# Altium integrated library Analog Devices Switches and Multiplexers Analog Switches.IntLib: 575 symbols (part 15 of 23)
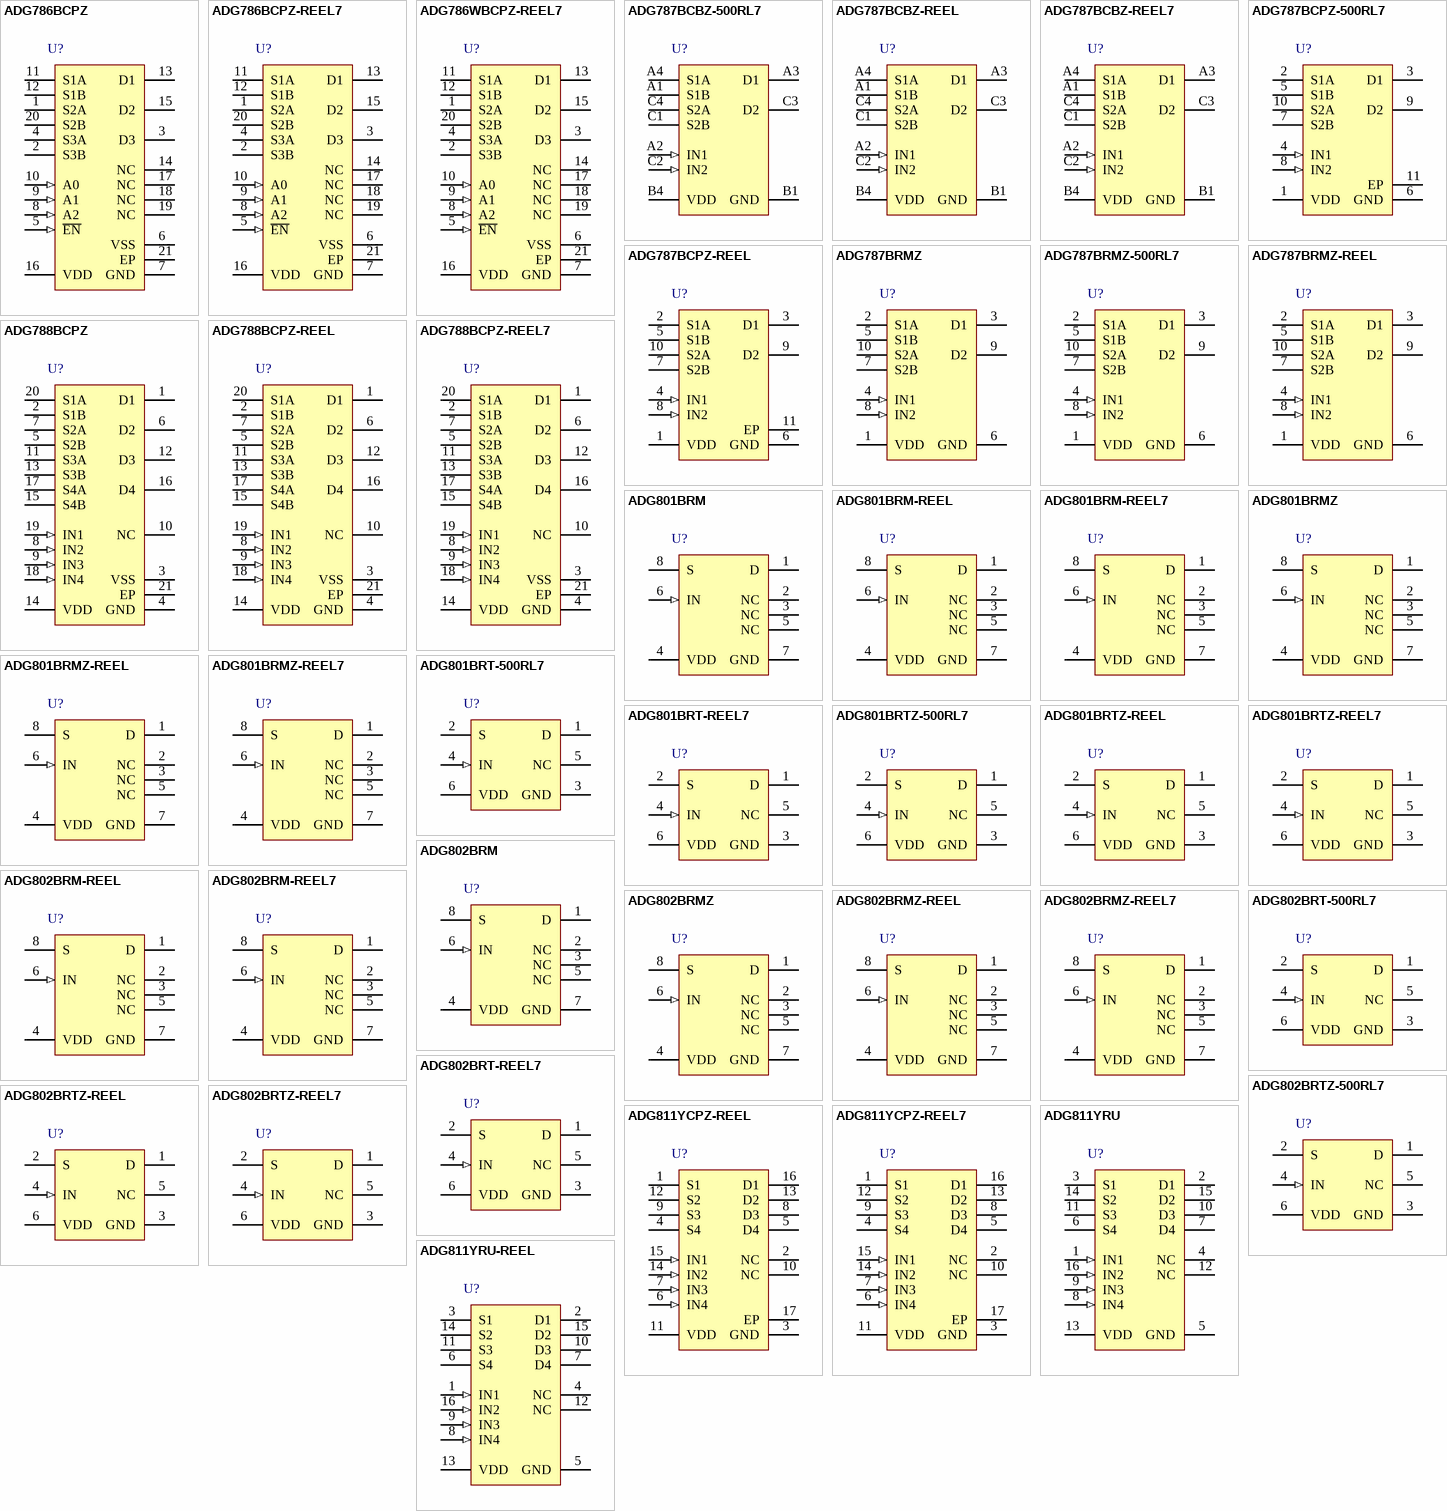
[diagram p29: symbols ADG786BCPZ to ADG811YRU-REEL]

## ADG802BRT-500RL7
designator U?
<0.4 Ohm CMOS 1.8 to 5.5 V SPST Switch, -40 to 125 degC, 6-pin SOT23 (RJ-6), Reel; Manufacturer: Analog Devices; PartNumber: ADG802BRT-500RL7; # Sw Functions: 1; Id, Is (ON): 10pA, 10pA; Max Pos Supply: 5.5V; Min Pos Supply: 1.8V; Power Dissipation: 5uW; DatasheetVersion: Rev. B; PackageVersion: 121608-A, 12/2008; PackageReference: RJ-6; PackageDescription: 6-Pin Small Outline Transistor Package, Body 2.9 x 1.6 mm, Pitch 0.95 mm; Supplier 1: Digi-Key; Supplier Part Number 1: ADG802BRT-500RL7-ND; Supplier 2: Newark; Supplier Part Number 2: 59K1631; Supplier 3: Mouser; Supplier Part Number 3: 584-ADG802BRT-500R7; Configuration: SPST; Is OFF: 10pA, 10pA; Packing: Reel; Mounting Technology: Surface Mount; Code_JEDEC: MO-178-AB; ComponentLink1Description: Manufacturer URL; ComponentLink1URL: http://www.analog.com/en/index.html; ComponentLink2Description: Datasheet; ComponentLink2URL: http://www.analog.com/static/imported-files/data_sheets/ADG801_802.pdf; ComponentLink3Description: Package Specification; ComponentLink3URL: http://www.analog.com/static/imported-files/packages/PKG_PDF/SOT-23(RJ)/RJ_6.pdf
footprint ADI-RJ-6_N (SOT23, 6-Leads, Body 2.9x1.6mm, Pitch 0.95mm, IPC Medium Density)
footprint ADI-RJ-6_L (SOT23, 6-Leads, Body 2.9x1.6mm, Pitch 0.95mm, IPC High Density)
footprint ADI-RJ-6_M (SOT23, 6-Leads, Body 2.9x1.6mm, Pitch 0.95mm, IPC Low Density)
pins: 1 D "Drain Terminal. Can be an input or an output.", 2 S "Source Terminal. Can be an input or an output.", 3 GND (power) "Ground (0 V) Reference.", 4 IN (in) "Logic Control Input.", 5 NC "No Connect. Do not connect to this pin.", 6 VDD (power) "Most Positive Power Supply Potential."

## ADG802BRT-REEL7
designator U?
<0.4 Ohm CMOS 1.8 to 5.5 V SPST Switch, -40 to 125 degC, 6-pin SOT23 (RJ-6), Reel; Manufacturer: Analog Devices; PartNumber: ADG802BRT-REEL7; # Sw Functions: 1; Id, Is (ON): 10pA, 10pA; Max Pos Supply: 5.5V; Min Pos Supply: 1.8V; Power Dissipation: 5uW; DatasheetVersion: Rev. B; PackageVersion: 121608-A, 12/2008; PackageReference: RJ-6; PackageDescription: 6-Pin Small Outline Transistor Package, Body 2.9 x 1.6 mm, Pitch 0.95 mm; Supplier 1: Digi-Key; Supplier Part Number 1: ADG802BRT-REEL7-ND; Configuration: SPST; Is OFF: 10pA, 10pA; Packing: Reel; Mounting Technology: Surface Mount; Code_JEDEC: MO-178-AB; ComponentLink1Description: Manufacturer URL; ComponentLink1URL: http://www.analog.com/en/index.html; ComponentLink2Description: Datasheet; ComponentLink2URL: http://www.analog.com/static/imported-files/data_sheets/ADG801_802.pdf; ComponentLink3Description: Package Specification; ComponentLink3URL: http://www.analog.com/static/imported-files/packages/PKG_PDF/SOT-23(RJ)/RJ_6.pdf
footprint ADI-RJ-6_N (SOT23, 6-Leads, Body 2.9x1.6mm, Pitch 0.95mm, IPC Medium Density)
footprint ADI-RJ-6_L (SOT23, 6-Leads, Body 2.9x1.6mm, Pitch 0.95mm, IPC High Density)
footprint ADI-RJ-6_M (SOT23, 6-Leads, Body 2.9x1.6mm, Pitch 0.95mm, IPC Low Density)
pins: 1 D "Drain Terminal. Can be an input or an output.", 2 S "Source Terminal. Can be an input or an output.", 3 GND (power) "Ground (0 V) Reference.", 4 IN (in) "Logic Control Input.", 5 NC "No Connect. Do not connect to this pin.", 6 VDD (power) "Most Positive Power Supply Potential."

## ADG802BRTZ-500RL7
designator U?
<0.4 Ohm CMOS 1.8 to 5.5 V SPST Switch, -40 to 125 degC, 6-pin SOT23 (RJ-6), Reel; Manufacturer: Analog Devices; PartNumber: ADG802BRTZ-500RL7; # Sw Functions: 1; Id, Is (ON): 10pA, 10pA; Max Pos Supply: 5.5V; Min Pos Supply: 1.8V; Power Dissipation: 5uW; DatasheetVersion: Rev. B; PackageVersion: 121608-A, 12/2008; PackageReference: RJ-6; PackageDescription: 6-Pin Small Outline Transistor Package, Body 2.9 x 1.6 mm, Pitch 0.95 mm; Supplier 1: Digi-Key; Supplier Part Number 1: ADG802BRTZ-500RL7TR-ND; Supplier 2: Digi-Key; Supplier Part Number 2: ADG802BRTZ-500RL7CT-ND; Supplier 3: Digi-Key; Supplier Part Number 3: ADG802BRTZ-500RL7DKR-ND; Supplier 4: Newark; Supplier Part Number 4: 59K1634; Supplier 5: Mouser; Supplier Part Number 5: 584-ADG802BRTZ-500R7; Configuration: SPST; Is OFF: 10pA, 10pA; Packing: Reel; Mounting Technology: Surface Mount; Code_JEDEC: MO-178-AB; ComponentLink1Description: Manufacturer URL; ComponentLink1URL: http://www.analog.com/en/index.html; ComponentLink2Description: Datasheet; ComponentLink2URL: http://www.analog.com/static/imported-files/data_sheets/ADG801_802.pdf; ComponentLink3Description: Package Specification; ComponentLink3URL: http://www.analog.com/static/imported-files/packages/PKG_PDF/SOT-23(RJ)/RJ_6.pdf
footprint ADI-RJ-6_N (SOT23, 6-Leads, Body 2.9x1.6mm, Pitch 0.95mm, IPC Medium Density)
footprint ADI-RJ-6_L (SOT23, 6-Leads, Body 2.9x1.6mm, Pitch 0.95mm, IPC High Density)
footprint ADI-RJ-6_M (SOT23, 6-Leads, Body 2.9x1.6mm, Pitch 0.95mm, IPC Low Density)
pins: 1 D "Drain Terminal. Can be an input or an output.", 2 S "Source Terminal. Can be an input or an output.", 3 GND (power) "Ground (0 V) Reference.", 4 IN (in) "Logic Control Input.", 5 NC "No Connect. Do not connect to this pin.", 6 VDD (power) "Most Positive Power Supply Potential."

## ADG802BRTZ-REEL
designator U?
<0.4 Ohm CMOS 1.8 to 5.5 V SPST Switch, -40 to 125 degC, 6-pin SOT23 (RJ-6), Reel; Manufacturer: Analog Devices; PartNumber: ADG802BRTZ-REEL; # Sw Functions: 1; Id, Is (ON): 10pA, 10pA; Max Pos Supply: 5.5V; Min Pos Supply: 1.8V; Power Dissipation: 5uW; DatasheetVersion: Rev. B; PackageVersion: 121608-A, 12/2008; PackageReference: RJ-6; PackageDescription: 6-Pin Small Outline Transistor Package, Body 2.9 x 1.6 mm, Pitch 0.95 mm; Supplier 1: Digi-Key; Supplier Part Number 1: ADG802BRTZ-REEL-ND; Supplier 2: Newark; Supplier Part Number 2: 59K1632; Supplier 3: Mouser; Supplier Part Number 3: 584-ADG802BRTZ-R; Configuration: SPST; Is OFF: 10pA, 10pA; Packing: Reel; Mounting Technology: Surface Mount; Code_JEDEC: MO-178-AB; ComponentLink1Description: Manufacturer URL; ComponentLink1URL: http://www.analog.com/en/index.html; ComponentLink2Description: Datasheet; ComponentLink2URL: http://www.analog.com/static/imported-files/data_sheets/ADG801_802.pdf; ComponentLink3Description: Package Specification; ComponentLink3URL: http://www.analog.com/static/imported-files/packages/PKG_PDF/SOT-23(RJ)/RJ_6.pdf
footprint ADI-RJ-6_N (SOT23, 6-Leads, Body 2.9x1.6mm, Pitch 0.95mm, IPC Medium Density)
footprint ADI-RJ-6_L (SOT23, 6-Leads, Body 2.9x1.6mm, Pitch 0.95mm, IPC High Density)
footprint ADI-RJ-6_M (SOT23, 6-Leads, Body 2.9x1.6mm, Pitch 0.95mm, IPC Low Density)
pins: 1 D "Drain Terminal. Can be an input or an output.", 2 S "Source Terminal. Can be an input or an output.", 3 GND (power) "Ground (0 V) Reference.", 4 IN (in) "Logic Control Input.", 5 NC "No Connect. Do not connect to this pin.", 6 VDD (power) "Most Positive Power Supply Potential."

## ADG802BRTZ-REEL7
designator U?
<0.4 Ohm CMOS 1.8 to 5.5 V SPST Switch, -40 to 125 degC, 6-pin SOT23 (RJ-6), Reel; Manufacturer: Analog Devices; PartNumber: ADG802BRTZ-REEL7; # Sw Functions: 1; Id, Is (ON): 10pA, 10pA; Max Pos Supply: 5.5V; Min Pos Supply: 1.8V; Power Dissipation: 5uW; DatasheetVersion: Rev. B; PackageVersion: 121608-A, 12/2008; PackageReference: RJ-6; PackageDescription: 6-Pin Small Outline Transistor Package, Body 2.9 x 1.6 mm, Pitch 0.95 mm; Supplier 1: Digi-Key; Supplier Part Number 1: ADG802BRTZ-REEL7TR-ND; Supplier 2: Digi-Key; Supplier Part Number 2: ADG802BRTZ-REEL7CT-ND; Supplier 3: Digi-Key; Supplier Part Number 3: ADG802BRTZ-REEL7DKR-ND; Supplier 4: Mouser; Supplier Part Number 4: 584-ADG802BRTZ-R7; Configuration: SPST; Is OFF: 10pA, 10pA; Packing: Reel; Mounting Technology: Surface Mount; Code_JEDEC: MO-178-AB; ComponentLink1Description: Manufacturer URL; ComponentLink1URL: http://www.analog.com/en/index.html; ComponentLink2Description: Datasheet; ComponentLink2URL: http://www.analog.com/static/imported-files/data_sheets/ADG801_802.pdf; ComponentLink3Description: Package Specification; ComponentLink3URL: http://www.analog.com/static/imported-files/packages/PKG_PDF/SOT-23(RJ)/RJ_6.pdf
footprint ADI-RJ-6_N (SOT23, 6-Leads, Body 2.9x1.6mm, Pitch 0.95mm, IPC Medium Density)
footprint ADI-RJ-6_L (SOT23, 6-Leads, Body 2.9x1.6mm, Pitch 0.95mm, IPC High Density)
footprint ADI-RJ-6_M (SOT23, 6-Leads, Body 2.9x1.6mm, Pitch 0.95mm, IPC Low Density)
pins: 1 D "Drain Terminal. Can be an input or an output.", 2 S "Source Terminal. Can be an input or an output.", 3 GND (power) "Ground (0 V) Reference.", 4 IN (in) "Logic Control Input.", 5 NC "No Connect. Do not connect to this pin.", 6 VDD (power) "Most Positive Power Supply Potential."

## ADG811YCPZ-REEL
designator U?
<0.5 Ohm CMOS, 1.65 to 3.6 V, Quad SPST Switch, -40 to 125 degC, 16-pin QFN (CP-16-3), Reel; Manufacturer: Analog Devices; PartNumber: ADG811YCPZ-REEL; # Sw Functions: 4; Id, Is (ON): 200pA, 200pA, 200pA; Max Pos Supply: 3.6V; Min Pos Supply: 1.65V; Power Dissipation: 14.4uW; DatasheetVersion: Rev. B; PackageReference: CP-16-3; PackageDescription: 16-Pin Lead Frame Chip Scale Package, Body 3 x 3 mm, Pitch 0.5 mm; Supplier 1: Digi-Key; Supplier Part Number 1: ADG811YCPZ-REEL-ND; Supplier 2: Mouser; Supplier Part Number 2: 584-ADG811YCPZ-R; Configuration: SPST; Is OFF: 200pA, 200pA, 200pA; Packing: Reel; Mounting Technology: Surface Mount; Code_JEDEC: MO-220-VEED-2; ComponentLink1Description: Manufacturer URL; ComponentLink1URL: http://www.analog.com/en/index.html; ComponentLink2Description: Datasheet; ComponentLink2URL: http://www.analog.com/static/imported-files/data_sheets/ADG811_812_813.pdf; ComponentLink3Description: Package Specification; ComponentLink3URL: http://www.analog.com/static/imported-files/packages/PKG_PDF/LFCSP(CP)/CP_16_3.pdf
footprint ADI-CP-16-3_N (QFN, 16-Leads, Body 3x3mm, Pitch 0.5mm, Thermal Pad 1.5x1.5mm, IPC Medium Density)
footprint ADI-CP-16-3_L (QFN, 16-Leads, Body 3x3mm, Pitch 0.5mm, Thermal Pad 1.5x1.5mm, IPC High Density)
footprint ADI-CP-16-3_M (QFN, 16-Leads, Body 3x3mm, Pitch 0.5mm, Thermal Pad 1.5x1.5mm, IPC Low Density)
pins: 1 S1 "Source Terminal. This pin may be an input or output.", 2 NC "No Connect.", 3 GND (power) "Ground (0 V) Reference.", 4 S4 "Source Terminal. This pin may be an input or output.", 5 D4 "Drain Terminal. This pin may be an input or output.", 6 IN4 (in) "Logic Control Input.", 7 IN3 (in) "Logic Control Input.", 8 D3 "Drain Terminal. This pin may be an input or output.", 9 S3 "Source Terminal. This pin may be an input or output.", 10 NC "No Connect.", 11 VDD (power) "Most Positive Power Supply Potential.", 12 S2 "Source Terminal. This pin may be an input or output.", 13 D2 "Drain Terminal. This pin may be an input or output.", 14 IN2 (in) "Logic Control Input.", 15 IN1 (in) "Logic Control Input.", 16 D1 "Drain Terminal. This pin may be an input or output.", 17 EP (power) "Connect exposed pad to GND."

## ADG811YCPZ-REEL7
designator U?
<0.5 Ohm CMOS, 1.65 to 3.6 V, Quad SPST Switches, -40 to 125 degC, 16-pin QFN (CP-16-3), Reel; Manufacturer: Analog Devices; PartNumber: ADG811YCPZ-REEL7; # Sw Functions: 4; Id, Is (ON): 200pA, 200pA, 200pA; Max Pos Supply: 3.6V; Min Pos Supply: 1.65V; Power Dissipation: 14.4 uW; DatasheetVersion: Rev. B; PackageReference: CP-16-3; PackageDescription: 16-Pin Lead Frame Chip Scale Package, Body 3 x 3 mm, Pitch 0.5 mm; Supplier 1: Digi-Key; Supplier Part Number 1: ADG811YCPZ-REEL7TR-ND; Supplier 2: Digi-Key; Supplier Part Number 2: ADG811YCPZ-REEL7CT-ND; Supplier 3: Digi-Key; Supplier Part Number 3: ADG811YCPZ-REEL7DKR-ND; Supplier 4: Newark; Supplier Part Number 4: 51P3720; Supplier 5: Mouser; Supplier Part Number 5: 584-ADG811YCPZ-R7; Configuration: SPST; Is OFF: 200pA, 200pA, 200pA; Packing: Reel; Mounting Technology: Surface Mount; Code_JEDEC: MO-220-VEED-2; ComponentLink1Description: Manufacturer URL; ComponentLink1URL: http://www.analog.com/en/index.html; ComponentLink2Description: Datasheet; ComponentLink2URL: http://www.analog.com/static/imported-files/data_sheets/ADG811_812_813.pdf; ComponentLink3Description: Package Specification; ComponentLink3URL: http://www.analog.com/static/imported-files/packages/PKG_PDF/LFCSP(CP)/CP_16_3.pdf
footprint ADI-CP-16-3_N (QFN, 16-Leads, Body 3x3mm, Pitch 0.5mm, Thermal Pad 1.5x1.5mm, IPC Medium Density)
footprint ADI-CP-16-3_L (QFN, 16-Leads, Body 3x3mm, Pitch 0.5mm, Thermal Pad 1.5x1.5mm, IPC High Density)
footprint ADI-CP-16-3_M (QFN, 16-Leads, Body 3x3mm, Pitch 0.5mm, Thermal Pad 1.5x1.5mm, IPC Low Density)
pins: 1 S1 "Source Terminal. This pin may be an input or output.", 2 NC "No Connect.", 3 GND (power) "Ground (0 V) Reference.", 4 S4 "Source Terminal. This pin may be an input or output.", 5 D4 "Drain Terminal. This pin may be an input or output.", 6 IN4 (in) "Logic Control Input.", 7 IN3 (in) "Logic Control Input.", 8 D3 "Drain Terminal. This pin may be an input or output.", 9 S3 "Source Terminal. This pin may be an input or output.", 10 NC "No Connect.", 11 VDD (power) "Most Positive Power Supply Potential.", 12 S2 "Source Terminal. This pin may be an input or output.", 13 D2 "Drain Terminal. This pin may be an input or output.", 14 IN2 (in) "Logic Control Input.", 15 IN1 (in) "Logic Control Input.", 16 D1 "Drain Terminal. This pin may be an input or output.", 17 EP (power) "Connect exposed pad to GND."

## ADG811YRU
designator U?
<0.5 Ohm CMOS, 1.65 to 3.6 V, Quad SPST Switch, -40 to 125 degC, 16-pin SOP (RU-16), Tube; Manufacturer: Analog Devices; PartNumber: ADG811YRU; # Sw Functions: 4; Id, Is (ON): 200pA, 200pA, 200pA; Max Pos Supply: 3.6V; Min Pos Supply: 1.65V; Power Dissipation: 14.4uW; DatasheetVersion: Rev. B; PackageVersion: Nov-02; PackageReference: RU-16; PackageDescription: 16-Pin Thin Shrink Small Outline Package, Body 5 x 4.4 mm, Pitch 0.65 mm; Supplier 1: Digi-Key; Supplier Part Number 1: ADG811YRU-ND; Supplier 2: Mouser; Supplier Part Number 2: 584-ADG811YRU; Configuration: SPST; Is OFF: 200pA, 200pA, 200pA; Packing: Tube; Mounting Technology: Surface Mount; Code_JEDEC: MO-153AB; ComponentLink1Description: Manufacturer URL; ComponentLink1URL: http://www.analog.com/en/index.html; ComponentLink2Description: Datasheet; ComponentLink2URL: http://www.analog.com/static/imported-files/data_sheets/ADG811_812_813.pdf; ComponentLink3Description: Package Specification; ComponentLink3URL: http:/www.analog.com/static/imported-files/packages/36244347913743854010197452789RU16.pdf
footprint ADI-RU-16_N (SOP, 16-Leads, Body 5x4.4mm, Pitch 0.65mm, IPC Medium Density)
footprint ADI-RU-16_L (SOP, 16-Leads, Body 5x4.4mm, Pitch 0.65mm, IPC High Density)
footprint ADI-RU-16_M (SOP, 16-Leads, Body 5x4.4mm, Pitch 0.65mm, IPC Low Density)
pins: 1 IN1 (in) "Logic control input.", 2 D1 "Drain Terminal. This pin may be an input or output.", 3 S1 "Source Terminal. This pin may be an input or output.", 4 NC "No Connect.", 5 GND (power) "Ground (0 V) reference.", 6 S4 "Source Terminal. This pin may be an input or output.", 7 D4 "Drain Terminal. This pin may be an input or output.", 8 IN4 (in) "Logic Control Input.", 9 IN3 (in) "Logic Control Input.", 10 D3 "Drain Terminal. This pin may be an input or output.", 11 S3 "Source Terminal. This pin may be an input or output.", 12 NC "No Connect.", 13 VDD (power) "Most Positive Power Supply Potential.", 14 S2 "Source Terminal. This pin may be an input or output.", 15 D2 "Drain Terminal. This pin may be an input or output.", 16 IN2 (in) "Logic Control Input."

## ADG811YRU-REEL
designator U?
<0.5 Ohm CMOS, 1.65 to 3.6 V, Quad SPST Switch, -40 to 125 degC, 16-pin SOP (RU-16), Reel; Manufacturer: Analog Devices; PartNumber: ADG811YRU-REEL; # Sw Functions: 4; Id, Is (ON): 200pA, 200pA, 200pA; Max Pos Supply: 3.6V; Min Pos Supply: 1.65V; Power Dissipation: 14.4uW; DatasheetVersion: Rev. B; PackageVersion: Nov-02; PackageReference: RU-16; PackageDescription: 16-Pin Thin Shrink Small Outline Package, Body 5 x 4.4 mm, Pitch 0.65 mm; Supplier 1: Digi-Key; Supplier Part Number 1: ADG811YRU-REEL-ND; Supplier 2: Mouser; Supplier Part Number 2: 584-ADG811YRU-R; Configuration: SPST; Is OFF: 200pA, 200pA, 200pA; Packing: Reel; Mounting Technology: Surface Mount; Code_JEDEC: MO-153AB; ComponentLink1Description: Manufacturer URL; ComponentLink1URL: http://www.analog.com/en/index.html; ComponentLink2Description: Datasheet; ComponentLink2URL: http://www.analog.com/static/imported-files/data_sheets/ADG811_812_813.pdf; ComponentLink3Description: Package Specification; ComponentLink3URL: http:/www.analog.com/static/imported-files/packages/36244347913743854010197452789RU16.pdf
footprint ADI-RU-16_N (SOP, 16-Leads, Body 5x4.4mm, Pitch 0.65mm, IPC Medium Density)
footprint ADI-RU-16_L (SOP, 16-Leads, Body 5x4.4mm, Pitch 0.65mm, IPC High Density)
footprint ADI-RU-16_M (SOP, 16-Leads, Body 5x4.4mm, Pitch 0.65mm, IPC Low Density)
pins: 1 IN1 (in) "Logic control input.", 2 D1 "Drain Terminal. This pin may be an input or output.", 3 S1 "Source Terminal. This pin may be an input or output.", 4 NC "No Connect.", 5 GND (power) "Ground (0 V) reference.", 6 S4 "Source Terminal. This pin may be an input or output.", 7 D4 "Drain Terminal. This pin may be an input or output.", 8 IN4 (in) "Logic Control Input.", 9 IN3 (in) "Logic Control Input.", 10 D3 "Drain Terminal. This pin may be an input or output.", 11 S3 "Source Terminal. This pin may be an input or output.", 12 NC "No Connect.", 13 VDD (power) "Most Positive Power Supply Potential.", 14 S2 "Source Terminal. This pin may be an input or output.", 15 D2 "Drain Terminal. This pin may be an input or output.", 16 IN2 (in) "Logic Control Input."

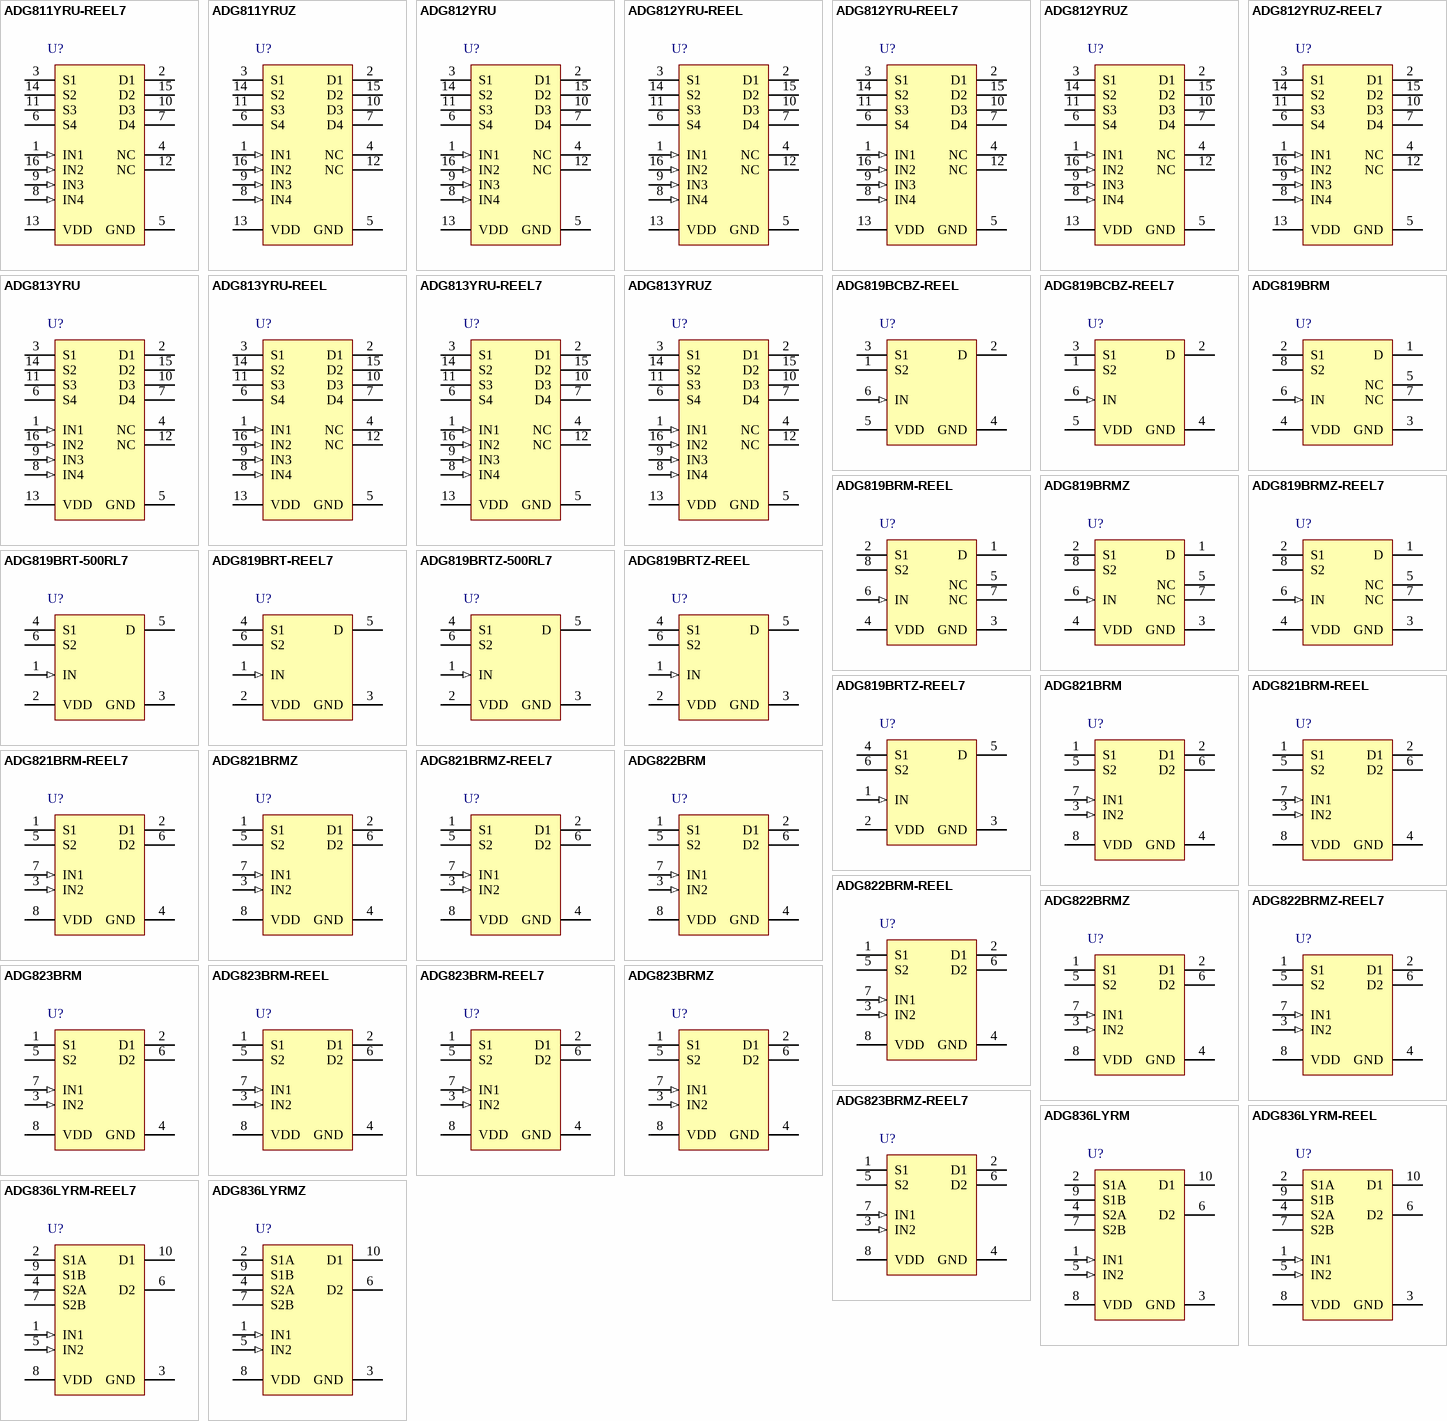
[diagram p10: symbols ADG811YRU-REEL7 to ADG836LYRMZ]

## ADG811YRU-REEL7
designator U?
<0.5 Ohm CMOS, 1.65 to 3.6 V, Quad SPST Switch, -40 to 125 degC, 16-pin SOP (RU-16), Reel; Manufacturer: Analog Devices; PartNumber: ADG811YRU-REEL7; # Sw Functions: 4; Id, Is (ON): 200pA, 200pA, 200pA; Max Pos Supply: 3.6V; Min Pos Supply: 1.65V; Power Dissipation: 14.4uW; DatasheetVersion: Rev. B; PackageVersion: Nov-02; PackageReference: RU-16; PackageDescription: 16-Pin Thin Shrink Small Outline Package, Body 5 x 4.4 mm, Pitch 0.65 mm; Supplier 1: Digi-Key; Supplier Part Number 1: ADG811YRU-REEL7-ND; Supplier 2: Mouser; Supplier Part Number 2: 584-ADG811YRU-R7; Configuration: SPST; Is OFF: 200pA, 200pA, 200pA; Packing: Reel; Mounting Technology: Surface Mount; Code_JEDEC: MO-153AB; ComponentLink1Description: Manufacturer URL; ComponentLink1URL: http://www.analog.com/en/index.html; ComponentLink2Description: Datasheet; ComponentLink2URL: http://www.analog.com/static/imported-files/data_sheets/ADG811_812_813.pdf; ComponentLink3Description: Package Specification; ComponentLink3URL: http:/www.analog.com/static/imported-files/packages/36244347913743854010197452789RU16.pdf
footprint ADI-RU-16_N (SOP, 16-Leads, Body 5x4.4mm, Pitch 0.65mm, IPC Medium Density)
footprint ADI-RU-16_L (SOP, 16-Leads, Body 5x4.4mm, Pitch 0.65mm, IPC High Density)
footprint ADI-RU-16_M (SOP, 16-Leads, Body 5x4.4mm, Pitch 0.65mm, IPC Low Density)
pins: 1 IN1 (in) "Logic control input.", 2 D1 "Drain Terminal. This pin may be an input or output.", 3 S1 "Source Terminal. This pin may be an input or output.", 4 NC "No Connect.", 5 GND (power) "Ground (0 V) reference.", 6 S4 "Source Terminal. This pin may be an input or output.", 7 D4 "Drain Terminal. This pin may be an input or output.", 8 IN4 (in) "Logic Control Input.", 9 IN3 (in) "Logic Control Input.", 10 D3 "Drain Terminal. This pin may be an input or output.", 11 S3 "Source Terminal. This pin may be an input or output.", 12 NC "No Connect.", 13 VDD (power) "Most Positive Power Supply Potential.", 14 S2 "Source Terminal. This pin may be an input or output.", 15 D2 "Drain Terminal. This pin may be an input or output.", 16 IN2 (in) "Logic Control Input."

## ADG811YRUZ
designator U?
<0.5 Ohm CMOS, 1.65 to 3.6 V, Quad SPST Switches, -40 to 125 degC, 16-pin SOP (RU-16), Tube; Manufacturer: Analog Devices; PartNumber: ADG811YRUZ; # Sw Functions: 4; Id, Is (ON): 200pA, 200pA, 200pA; Max Pos Supply: 3.6V; Min Pos Supply: 1.65V; Power Dissipation: 14.4 uW; DatasheetVersion: Rev. B; PackageVersion: Nov-02; PackageReference: RU-16; PackageDescription: 16-Pin Thin Shrink Small Outline Package, Body 5 x 4.4 mm, Pitch 0.65 mm; Supplier 1: Digi-Key; Supplier Part Number 1: ADG811YRUZ-ND; Supplier 2: Farnell; Supplier Part Number 2: 1838890; Supplier 3: Newark; Supplier Part Number 3: 59K1641; Supplier 4: Mouser; Supplier Part Number 4: 584-ADG811YRUZ; Configuration: SPST; Is OFF: 200pA, 200pA, 200pA; Packing: Tube; Mounting Technology: Surface Mount; Code_JEDEC: MO-153AB; ComponentLink1Description: Manufacturer URL; ComponentLink1URL: http://www.analog.com/en/index.html; ComponentLink2Description: Datasheet; ComponentLink2URL: http://www.analog.com/static/imported-files/data_sheets/ADG811_812_813.pdf; ComponentLink3Description: Package Specification; ComponentLink3URL: http:/www.analog.com/static/imported-files/packages/36244347913743854010197452789RU16.pdf
footprint ADI-RU-16_N (SOP, 16-Leads, Body 5x4.4mm, Pitch 0.65mm, IPC Medium Density)
footprint ADI-RU-16_L (SOP, 16-Leads, Body 5x4.4mm, Pitch 0.65mm, IPC High Density)
footprint ADI-RU-16_M (SOP, 16-Leads, Body 5x4.4mm, Pitch 0.65mm, IPC Low Density)
pins: 1 IN1 (in) "Logic control input.", 2 D1 "Drain Terminal. This pin may be an input or output.", 3 S1 "Source Terminal. This pin may be an input or output.", 4 NC "No Connect.", 5 GND (power) "Ground (0 V) reference.", 6 S4 "Source Terminal. This pin may be an input or output.", 7 D4 "Drain Terminal. This pin may be an input or output.", 8 IN4 (in) "Logic Control Input.", 9 IN3 (in) "Logic Control Input.", 10 D3 "Drain Terminal. This pin may be an input or output.", 11 S3 "Source Terminal. This pin may be an input or output.", 12 NC "No Connect.", 13 VDD (power) "Most Positive Power Supply Potential.", 14 S2 "Source Terminal. This pin may be an input or output.", 15 D2 "Drain Terminal. This pin may be an input or output.", 16 IN2 (in) "Logic Control Input."

## ADG812YRU
designator U?
<0.5 Ohm CMOS, 1.65 to 3.6 V, Quad SPST Switches, -40 to 125 degC, 16-pin SOP (RU-16), Tube; Manufacturer: Analog Devices; PartNumber: ADG812YRU; # Sw Functions: 4; Id, Is (ON): 200pA, 200pA, 200pA; Max Pos Supply: 3.6V; Min Pos Supply: 1.65V; Power Dissipation: 14.4uW; DatasheetVersion: Rev. B; PackageVersion: Nov-02; PackageReference: RU-16; PackageDescription: 16-Pin Thin Shrink Small Outline Package, Body 5 x 4.4 mm, Pitch 0.65 mm; Supplier 1: Digi-Key; Supplier Part Number 1: ADG812YRU-ND; Supplier 2: Mouser; Supplier Part Number 2: 584-ADG812YRU; Configuration: SPST; Is OFF: 200pA, 200pA, 200pA; Packing: Tube; Mounting Technology: Surface Mount; Code_JEDEC: MO-153AB; ComponentLink1Description: Manufacturer URL; ComponentLink1URL: http://www.analog.com/en/index.html; ComponentLink2Description: Datasheet; ComponentLink2URL: http://www.analog.com/static/imported-files/data_sheets/ADG811_812_813.pdf; ComponentLink3Description: Package Specification; ComponentLink3URL: http:/www.analog.com/static/imported-files/packages/36244347913743854010197452789RU16.pdf
footprint ADI-RU-16_N (SOP, 16-Leads, Body 5x4.4mm, Pitch 0.65mm, IPC Medium Density)
footprint ADI-RU-16_L (SOP, 16-Leads, Body 5x4.4mm, Pitch 0.65mm, IPC High Density)
footprint ADI-RU-16_M (SOP, 16-Leads, Body 5x4.4mm, Pitch 0.65mm, IPC Low Density)
pins: 1 IN1 (in) "Logic control input.", 2 D1 "Drain Terminal. This pin may be an input or output.", 3 S1 "Source Terminal. This pin may be an input or output.", 4 NC "No Connect.", 5 GND (power) "Ground (0 V) reference.", 6 S4 "Source Terminal. This pin may be an input or output.", 7 D4 "Drain Terminal. This pin may be an input or output.", 8 IN4 (in) "Logic Control Input.", 9 IN3 (in) "Logic Control Input.", 10 D3 "Drain Terminal. This pin may be an input or output.", 11 S3 "Source Terminal. This pin may be an input or output.", 12 NC "No Connect.", 13 VDD (power) "Most Positive Power Supply Potential.", 14 S2 "Source Terminal. This pin may be an input or output.", 15 D2 "Drain Terminal. This pin may be an input or output.", 16 IN2 (in) "Logic Control Input."

## ADG812YRU-REEL
designator U?
<0.5 Ohm CMOS, 1.65 to 3.6 V, Quad SPST Switche, -40 to 125 degC, 16-pin SOP (RU-16), Reel; Manufacturer: Analog Devices; PartNumber: ADG812YRU-REEL; # Sw Functions: 4; Id, Is (ON): 200pA, 200pA, 200pA; Max Pos Supply: 3.6V; Min Pos Supply: 1.65V; Power Dissipation: 14.4uW; DatasheetVersion: Rev. B; PackageVersion: Nov-02; PackageReference: RU-16; PackageDescription: 16-Pin Thin Shrink Small Outline Package, Body 5 x 4.4 mm, Pitch 0.65 mm; Supplier 1: Digi-Key; Supplier Part Number 1: ADG812YRU-REEL-ND; Supplier 2: Mouser; Supplier Part Number 2: 584-ADG812YRU-R; Configuration: SPST; Is OFF: 200pA, 200pA, 200pA; Packing: Reel; Mounting Technology: Surface Mount; Code_JEDEC: MO-153AB; ComponentLink1Description: Manufacturer URL; ComponentLink1URL: http://www.analog.com/en/index.html; ComponentLink2Description: Datasheet; ComponentLink2URL: http://www.analog.com/static/imported-files/data_sheets/ADG811_812_813.pdf; ComponentLink3Description: Package Specification; ComponentLink3URL: http:/www.analog.com/static/imported-files/packages/36244347913743854010197452789RU16.pdf
footprint ADI-RU-16_N (SOP, 16-Leads, Body 5x4.4mm, Pitch 0.65mm, IPC Medium Density)
footprint ADI-RU-16_L (SOP, 16-Leads, Body 5x4.4mm, Pitch 0.65mm, IPC High Density)
footprint ADI-RU-16_M (SOP, 16-Leads, Body 5x4.4mm, Pitch 0.65mm, IPC Low Density)
pins: 1 IN1 (in) "Logic control input.", 2 D1 "Drain Terminal. This pin may be an input or output.", 3 S1 "Source Terminal. This pin may be an input or output.", 4 NC "No Connect.", 5 GND (power) "Ground (0 V) reference.", 6 S4 "Source Terminal. This pin may be an input or output.", 7 D4 "Drain Terminal. This pin may be an input or output.", 8 IN4 (in) "Logic Control Input.", 9 IN3 (in) "Logic Control Input.", 10 D3 "Drain Terminal. This pin may be an input or output.", 11 S3 "Source Terminal. This pin may be an input or output.", 12 NC "No Connect.", 13 VDD (power) "Most Positive Power Supply Potential.", 14 S2 "Source Terminal. This pin may be an input or output.", 15 D2 "Drain Terminal. This pin may be an input or output.", 16 IN2 (in) "Logic Control Input."

## ADG812YRU-REEL7
designator U?
<0.5 Ohm CMOS, 1.65 to 3.6 V, Quad SPST Switches, -40 to 125 degC, 16-pin SOP (RU-16), Reel; Manufacturer: Analog Devices; PartNumber: ADG812YRU-REEL7; # Sw Functions: 4; Id, Is (ON): 200pA, 200pA, 200pA; Max Pos Supply: 3.6V; Min Pos Supply: 1.65V; Power Dissipation: 14.4uW; DatasheetVersion: Rev. B; PackageVersion: Nov-02; PackageReference: RU-16; PackageDescription: 16-Pin Thin Shrink Small Outline Package, Body 5 x 4.4 mm, Pitch 0.65 mm; Supplier 1: Digi-Key; Supplier Part Number 1: ADG812YRU-REEL7-ND; Supplier 2: Mouser; Supplier Part Number 2: 584-ADG812YRU-R7; Configuration: SPST; Is OFF: 200pA, 200pA, 200pA; Packing: Reel; Mounting Technology: Surface Mount; Code_JEDEC: MO-153AB; ComponentLink1Description: Manufacturer URL; ComponentLink1URL: http://www.analog.com/en/index.html; ComponentLink2Description: Datasheet; ComponentLink2URL: http://www.analog.com/static/imported-files/data_sheets/ADG811_812_813.pdf; ComponentLink3Description: Package Specification; ComponentLink3URL: http:/www.analog.com/static/imported-files/packages/36244347913743854010197452789RU16.pdf
footprint ADI-RU-16_N (SOP, 16-Leads, Body 5x4.4mm, Pitch 0.65mm, IPC Medium Density)
footprint ADI-RU-16_L (SOP, 16-Leads, Body 5x4.4mm, Pitch 0.65mm, IPC High Density)
footprint ADI-RU-16_M (SOP, 16-Leads, Body 5x4.4mm, Pitch 0.65mm, IPC Low Density)
pins: 1 IN1 (in) "Logic control input.", 2 D1 "Drain Terminal. This pin may be an input or output.", 3 S1 "Source Terminal. This pin may be an input or output.", 4 NC "No Connect.", 5 GND (power) "Ground (0 V) reference.", 6 S4 "Source Terminal. This pin may be an input or output.", 7 D4 "Drain Terminal. This pin may be an input or output.", 8 IN4 (in) "Logic Control Input.", 9 IN3 (in) "Logic Control Input.", 10 D3 "Drain Terminal. This pin may be an input or output.", 11 S3 "Source Terminal. This pin may be an input or output.", 12 NC "No Connect.", 13 VDD (power) "Most Positive Power Supply Potential.", 14 S2 "Source Terminal. This pin may be an input or output.", 15 D2 "Drain Terminal. This pin may be an input or output.", 16 IN2 (in) "Logic Control Input."

## ADG812YRUZ
designator U?
<0.5 Ohm CMOS, 1.65 to 3.6 V, Quad SPST Switches, -40 to 125 degC, 16-pin SOP (RU-16), Tube; Manufacturer: Analog Devices; PartNumber: ADG812YRUZ; # Sw Functions: 4; Id, Is (ON): 200pA, 200pA, 200pA; Max Pos Supply: 3.6V; Min Pos Supply: 1.65V; Power Dissipation: 14.4uW; DatasheetVersion: Rev. B; PackageVersion: Nov-02; PackageReference: RU-16; PackageDescription: 16-Pin Thin Shrink Small Outline Package, Body 5 x 4.4 mm, Pitch 0.65 mm; Supplier 1: Digi-Key; Supplier Part Number 1: ADG812YRUZ-ND; Supplier 2: Farnell; Supplier Part Number 2: 2376786; Supplier 3: Farnell; Supplier Part Number 3: 2192242; Supplier 4: Newark; Supplier Part Number 4: 59K1642; Supplier 5: Mouser; Supplier Part Number 5: 584-ADG812YRUZ; Configuration: SPST; Is OFF: 200pA, 200pA, 200pA; Packing: Tube; Mounting Technology: Surface Mount; Code_JEDEC: MO-153AB; ComponentLink1Description: Manufacturer URL; ComponentLink1URL: http://www.analog.com/en/index.html; ComponentLink2Description: Datasheet; ComponentLink2URL: http://www.analog.com/static/imported-files/data_sheets/ADG811_812_813.pdf; ComponentLink3Description: Package Specification; ComponentLink3URL: http:/www.analog.com/static/imported-files/packages/36244347913743854010197452789RU16.pdf
footprint ADI-RU-16_N (SOP, 16-Leads, Body 5x4.4mm, Pitch 0.65mm, IPC Medium Density)
footprint ADI-RU-16_L (SOP, 16-Leads, Body 5x4.4mm, Pitch 0.65mm, IPC High Density)
footprint ADI-RU-16_M (SOP, 16-Leads, Body 5x4.4mm, Pitch 0.65mm, IPC Low Density)
pins: 1 IN1 (in) "Logic control input.", 2 D1 "Drain Terminal. This pin may be an input or output.", 3 S1 "Source Terminal. This pin may be an input or output.", 4 NC "No Connect.", 5 GND (power) "Ground (0 V) reference.", 6 S4 "Source Terminal. This pin may be an input or output.", 7 D4 "Drain Terminal. This pin may be an input or output.", 8 IN4 (in) "Logic Control Input.", 9 IN3 (in) "Logic Control Input.", 10 D3 "Drain Terminal. This pin may be an input or output.", 11 S3 "Source Terminal. This pin may be an input or output.", 12 NC "No Connect.", 13 VDD (power) "Most Positive Power Supply Potential.", 14 S2 "Source Terminal. This pin may be an input or output.", 15 D2 "Drain Terminal. This pin may be an input or output.", 16 IN2 (in) "Logic Control Input."

## ADG812YRUZ-REEL7
designator U?
<0.5 Ohm CMOS, 1.65 to 3.6 V, Quad SPST Switches, -40 to 125 degC, 16-pin SOP (RU-16), Reel; Manufacturer: Analog Devices; PartNumber: ADG812YRUZ-REEL7; # Sw Functions: 4; Id, Is (ON): 200pA, 200pA, 200pA; Max Pos Supply: 3.6V; Min Pos Supply: 1.65V; Power Dissipation: 14.4uW; DatasheetVersion: Rev. B; PackageVersion: Nov-02; PackageReference: RU-16; PackageDescription: 16-Pin Thin Shrink Small Outline Package, Body 5 x 4.4 mm, Pitch 0.65 mm; Supplier 1: Digi-Key; Supplier Part Number 1: ADG812YRUZ-REEL7-ND; Supplier 2: Mouser; Supplier Part Number 2: 584-ADG812YRUZ-R7; Configuration: SPST; Is OFF: 200pA, 200pA, 200pA; Packing: Reel; Mounting Technology: Surface Mount; Code_JEDEC: MO-153AB; ComponentLink1Description: Manufacturer URL; ComponentLink1URL: http://www.analog.com/en/index.html; ComponentLink2Description: Datasheet; ComponentLink2URL: http://www.analog.com/static/imported-files/data_sheets/ADG811_812_813.pdf; ComponentLink3Description: Package Specification; ComponentLink3URL: http:/www.analog.com/static/imported-files/packages/36244347913743854010197452789RU16.pdf
footprint ADI-RU-16_N (SOP, 16-Leads, Body 5x4.4mm, Pitch 0.65mm, IPC Medium Density)
footprint ADI-RU-16_L (SOP, 16-Leads, Body 5x4.4mm, Pitch 0.65mm, IPC High Density)
footprint ADI-RU-16_M (SOP, 16-Leads, Body 5x4.4mm, Pitch 0.65mm, IPC Low Density)
pins: 1 IN1 (in) "Logic control input.", 2 D1 "Drain Terminal. This pin may be an input or output.", 3 S1 "Source Terminal. This pin may be an input or output.", 4 NC "No Connect.", 5 GND (power) "Ground (0 V) reference.", 6 S4 "Source Terminal. This pin may be an input or output.", 7 D4 "Drain Terminal. This pin may be an input or output.", 8 IN4 (in) "Logic Control Input.", 9 IN3 (in) "Logic Control Input.", 10 D3 "Drain Terminal. This pin may be an input or output.", 11 S3 "Source Terminal. This pin may be an input or output.", 12 NC "No Connect.", 13 VDD (power) "Most Positive Power Supply Potential.", 14 S2 "Source Terminal. This pin may be an input or output.", 15 D2 "Drain Terminal. This pin may be an input or output.", 16 IN2 (in) "Logic Control Input."

## ADG813YRU
designator U?
<0.5 Ohm CMOS, 1.65 to 3.6 V, Quad SPST Switches, -40 to 125 degC, 16-pin SOP (RU-16), Tube; Manufacturer: Analog Devices; PartNumber: ADG813YRU; # Sw Functions: 4; Id, Is (ON): 200pA, 200pA, 200pA; Max Pos Supply: 3.6V; Min Pos Supply: 1.65V; Power Dissipation: 14.4uW; DatasheetVersion: Rev. B; PackageVersion: Nov-02; PackageReference: RU-16; PackageDescription: 16-Pin Thin Shrink Small Outline Package, Body 5 x 4.4 mm, Pitch 0.65 mm; Supplier 1: Digi-Key; Supplier Part Number 1: ADG813YRU-ND; Supplier 2: Mouser; Supplier Part Number 2: 584-ADG813YRU; Configuration: SPST; Is OFF: 200pA, 200pA, 200pA; Packing: Tube; Mounting Technology: Surface Mount; Code_JEDEC: MO-153AB; ComponentLink1Description: Manufacturer URL; ComponentLink1URL: http://www.analog.com/en/index.html; ComponentLink2Description: Datasheet; ComponentLink2URL: http://www.analog.com/static/imported-files/data_sheets/ADG811_812_813.pdf; ComponentLink3Description: Package Specification; ComponentLink3URL: http:/www.analog.com/static/imported-files/packages/36244347913743854010197452789RU16.pdf
footprint ADI-RU-16_N (SOP, 16-Leads, Body 5x4.4mm, Pitch 0.65mm, IPC Medium Density)
footprint ADI-RU-16_L (SOP, 16-Leads, Body 5x4.4mm, Pitch 0.65mm, IPC High Density)
footprint ADI-RU-16_M (SOP, 16-Leads, Body 5x4.4mm, Pitch 0.65mm, IPC Low Density)
pins: 1 IN1 (in) "Logic control input.", 2 D1 "Drain Terminal. This pin may be an input or output.", 3 S1 "Source Terminal. This pin may be an input or output.", 4 NC "No Connect.", 5 GND (power) "Ground (0 V) reference.", 6 S4 "Source Terminal. This pin may be an input or output.", 7 D4 "Drain Terminal. This pin may be an input or output.", 8 IN4 (in) "Logic Control Input.", 9 IN3 (in) "Logic Control Input.", 10 D3 "Drain Terminal. This pin may be an input or output.", 11 S3 "Source Terminal. This pin may be an input or output.", 12 NC "No Connect.", 13 VDD (power) "Most Positive Power Supply Potential.", 14 S2 "Source Terminal. This pin may be an input or output.", 15 D2 "Drain Terminal. This pin may be an input or output.", 16 IN2 (in) "Logic Control Input."

## ADG813YRU-REEL
designator U?
<0.5 Ohm CMOS, 1.65 to 3.6 V, Quad SPST Switches, -40 to 125 degC, 16-pin SOP (RU-16), Reel; Manufacturer: Analog Devices; PartNumber: ADG813YRU-REEL; # Sw Functions: 4; Id, Is (ON): 200pA, 200pA, 200pA; Max Pos Supply: 3.6V; Min Pos Supply: 1.65V; Power Dissipation: 14.4uW; DatasheetVersion: Rev. B; PackageVersion: Nov-02; PackageReference: RU-16; PackageDescription: 16-Pin Thin Shrink Small Outline Package, Body 5 x 4.4 mm, Pitch 0.65 mm; Supplier 1: Digi-Key; Supplier Part Number 1: ADG813YRU-REEL-ND; Supplier 2: Mouser; Supplier Part Number 2: 584-ADG813YRU-R; Configuration: SPST; Is OFF: 200pA, 200pA, 200pA; Packing: Reel; Mounting Technology: Surface Mount; Code_JEDEC: MO-153AB; ComponentLink1Description: Manufacturer URL; ComponentLink1URL: http://www.analog.com/en/index.html; ComponentLink2Description: Datasheet; ComponentLink2URL: http://www.analog.com/static/imported-files/data_sheets/ADG811_812_813.pdf; ComponentLink3Description: Package Specification; ComponentLink3URL: http:/www.analog.com/static/imported-files/packages/36244347913743854010197452789RU16.pdf
footprint ADI-RU-16_N (SOP, 16-Leads, Body 5x4.4mm, Pitch 0.65mm, IPC Medium Density)
footprint ADI-RU-16_L (SOP, 16-Leads, Body 5x4.4mm, Pitch 0.65mm, IPC High Density)
footprint ADI-RU-16_M (SOP, 16-Leads, Body 5x4.4mm, Pitch 0.65mm, IPC Low Density)
pins: 1 IN1 (in) "Logic control input.", 2 D1 "Drain Terminal. This pin may be an input or output.", 3 S1 "Source Terminal. This pin may be an input or output.", 4 NC "No Connect.", 5 GND (power) "Ground (0 V) reference.", 6 S4 "Source Terminal. This pin may be an input or output.", 7 D4 "Drain Terminal. This pin may be an input or output.", 8 IN4 (in) "Logic Control Input.", 9 IN3 (in) "Logic Control Input.", 10 D3 "Drain Terminal. This pin may be an input or output.", 11 S3 "Source Terminal. This pin may be an input or output.", 12 NC "No Connect.", 13 VDD (power) "Most Positive Power Supply Potential.", 14 S2 "Source Terminal. This pin may be an input or output.", 15 D2 "Drain Terminal. This pin may be an input or output.", 16 IN2 (in) "Logic Control Input."

## ADG813YRU-REEL7
designator U?
<0.5 Ohm CMOS, 1.65 to 3.6 V, Quad SPST Switche, -40 to 125 degC, 16-pin SOP (RU-16), Reel; Manufacturer: Analog Devices; PartNumber: ADG813YRU-REEL7; # Sw Functions: 4; Id, Is (ON): 200pA, 200pA, 200pA; Max Pos Supply: 3.6V; Min Pos Supply: 1.65V; Power Dissipation: 14.4uW; DatasheetVersion: Rev. B; PackageVersion: Nov-02; PackageReference: RU-16; PackageDescription: 16-Pin Thin Shrink Small Outline Package, Body 5 x 4.4 mm, Pitch 0.65 mm; Supplier 1: Digi-Key; Supplier Part Number 1: ADG813YRU-REEL7-ND; Supplier 2: Mouser; Supplier Part Number 2: 584-ADG813YRU-R7; Configuration: SPST; Is OFF: 200pA, 200pA, 200pA; Packing: Reel; Mounting Technology: Surface Mount; Code_JEDEC: MO-153AB; ComponentLink1Description: Manufacturer URL; ComponentLink1URL: http://www.analog.com/en/index.html; ComponentLink2Description: Datasheet; ComponentLink2URL: http://www.analog.com/static/imported-files/data_sheets/ADG811_812_813.pdf; ComponentLink3Description: Package Specification; ComponentLink3URL: http:/www.analog.com/static/imported-files/packages/36244347913743854010197452789RU16.pdf
footprint ADI-RU-16_N (SOP, 16-Leads, Body 5x4.4mm, Pitch 0.65mm, IPC Medium Density)
footprint ADI-RU-16_L (SOP, 16-Leads, Body 5x4.4mm, Pitch 0.65mm, IPC High Density)
footprint ADI-RU-16_M (SOP, 16-Leads, Body 5x4.4mm, Pitch 0.65mm, IPC Low Density)
pins: 1 IN1 (in) "Logic control input.", 2 D1 "Drain Terminal. This pin may be an input or output.", 3 S1 "Source Terminal. This pin may be an input or output.", 4 NC "No Connect.", 5 GND (power) "Ground (0 V) reference.", 6 S4 "Source Terminal. This pin may be an input or output.", 7 D4 "Drain Terminal. This pin may be an input or output.", 8 IN4 (in) "Logic Control Input.", 9 IN3 (in) "Logic Control Input.", 10 D3 "Drain Terminal. This pin may be an input or output.", 11 S3 "Source Terminal. This pin may be an input or output.", 12 NC "No Connect.", 13 VDD (power) "Most Positive Power Supply Potential.", 14 S2 "Source Terminal. This pin may be an input or output.", 15 D2 "Drain Terminal. This pin may be an input or output.", 16 IN2 (in) "Logic Control Input."

## ADG813YRUZ
designator U?
<0.5 Ohm CMOS, 1.65 to 3.6 V, Quad SPST Switches, -40 to 125 degC, 16-pin SOP (RU-16), Tube; Manufacturer: Analog Devices; PartNumber: ADG813YRUZ; # Sw Functions: 4; Id, Is (ON): 200pA, 200pA, 200pA; Max Pos Supply: 3.6V; Min Pos Supply: 1.65V; Power Dissipation: 14.4uW; DatasheetVersion: Rev. B; PackageVersion: Nov-02; PackageReference: RU-16; PackageDescription: 16-Pin Thin Shrink Small Outline Package, Body 5 x 4.4 mm, Pitch 0.65 mm; Supplier 1: Digi-Key; Supplier Part Number 1: ADG813YRUZ-ND; Supplier 2: Mouser; Supplier Part Number 2: 584-ADG813YRUZ; Configuration: SPST; Is OFF: 200pA, 200pA, 200pA; Packing: Tube; Mounting Technology: Surface Mount; Code_JEDEC: MO-153AB; ComponentLink1Description: Manufacturer URL; ComponentLink1URL: http://www.analog.com/en/index.html; ComponentLink2Description: Datasheet; ComponentLink2URL: http://www.analog.com/static/imported-files/data_sheets/ADG811_812_813.pdf; ComponentLink3Description: Package Specification; ComponentLink3URL: http:/www.analog.com/static/imported-files/packages/36244347913743854010197452789RU16.pdf
footprint ADI-RU-16_N (SOP, 16-Leads, Body 5x4.4mm, Pitch 0.65mm, IPC Medium Density)
footprint ADI-RU-16_L (SOP, 16-Leads, Body 5x4.4mm, Pitch 0.65mm, IPC High Density)
footprint ADI-RU-16_M (SOP, 16-Leads, Body 5x4.4mm, Pitch 0.65mm, IPC Low Density)
pins: 1 IN1 (in) "Logic control input.", 2 D1 "Drain Terminal. This pin may be an input or output.", 3 S1 "Source Terminal. This pin may be an input or output.", 4 NC "No Connect.", 5 GND (power) "Ground (0 V) reference.", 6 S4 "Source Terminal. This pin may be an input or output.", 7 D4 "Drain Terminal. This pin may be an input or output.", 8 IN4 (in) "Logic Control Input.", 9 IN3 (in) "Logic Control Input.", 10 D3 "Drain Terminal. This pin may be an input or output.", 11 S3 "Source Terminal. This pin may be an input or output.", 12 NC "No Connect.", 13 VDD (power) "Most Positive Power Supply Potential.", 14 S2 "Source Terminal. This pin may be an input or output.", 15 D2 "Drain Terminal. This pin may be an input or output.", 16 IN2 (in) "Logic Control Input."

## ADG819BCBZ-REEL
designator U?
0.5 Ohm, CMOS, 1.8 to 5.5 V, 2:1 Mux / SPDT Switch, -40 to 85 degC, 6-pin BGA (CB-6-1), Reel; Manufacturer: Analog Devices; PartNumber: ADG819BCBZ-REEL; # Sw Functions: 1; Id, Is (ON): 10pA, 10pA; Max Pos Supply: 5.5V; Min Pos Supply: 1.8V; Power Dissipation: 5uW; Ron (ohms): 0.5; DatasheetVersion: 02-03-2012-A; PackageVersion: 02-03-2012-A, 02/2012; PackageReference: CB-6-1-ADG819; PackageDescription: 6-Ball Wafer Level Chip Scale Package, Body 2.18 x 1.14 mm, Pitch 0.5 mm; Supplier 1: Mouser; Supplier Part Number 1: N/A; Configuration: SPDT; Is OFF: 10pA, 10pA; Packing: Reel; Mounting Technology: Surface Mount; ComponentLink1Description: Manufacturer URL; ComponentLink1URL: http://www.analog.com/en/index.html; ComponentLink2Description: Datasheet; ComponentLink2URL: http://www.analog.com/static/imported-files/data_sheets/ADG819.pdf; ComponentLink3Description: Package Specification; ComponentLink3URL: http://www.analog.com/static/imported-files/data_sheets/ADG819.pdf
footprint ADI-CB-6-1-ADG819 (BGA, 6-Balls, Body 2.18x1.14mm, Pitch 0.5mm)
pins: 1 S2 "Source Terminal. Can be an input or output.", 2 D "Drain Terminal. Can be an input or output.", 3 S1 "Source Terminal. Can be an input or output.", 4 GND (power) "Ground (0 V) Reference.", 5 VDD (power) "Most Positive Power Supply Potential.", 6 IN (in) "Logic Control Input."

## ADG819BCBZ-REEL7
designator U?
0.5 Ohm, CMOS, 1.8 to 5.5 V, 2:1 Mux / SPDT Switch, -40 to 85 degC, 6-pin BGA (CB-6-1), Reel; Manufacturer: Analog Devices; PartNumber: ADG819BCBZ-REEL7; # Sw Functions: 1; Id, Is (ON): 10pA, 10pA; Max Pos Supply: 5.5V; Min Pos Supply: 1.8V; Power Dissipation: 5uW; Ron (ohms): 0.5; DatasheetVersion: 02-03-2012-A; PackageVersion: 02-03-2012-A, 02/2012; PackageReference: CB-6-1-ADG819; PackageDescription: 6-Ball Wafer Level Chip Scale Package, Body 2.18 x 1.14 mm, Pitch 0.5 mm; Supplier 1: Digi-Key; Supplier Part Number 1: ADG819BCBZ-REEL7TR-ND; Supplier 2: Digi-Key; Supplier Part Number 2: ADG819BCBZ-REEL7CT-ND; Supplier 3: Digi-Key; Supplier Part Number 3: ADG819BCBZ-REEL7DKR-ND; Supplier 4: Farnell; Supplier Part Number 4: 2312949; Supplier 5: Newark; Supplier Part Number 5: 67W3130; Supplier 6: Newark; Supplier Part Number 6: 63R9737; Supplier 7: Mouser; Supplier Part Number 7: 584-ADG819BCBZ-R7; Configuration: SPDT; Is OFF: 10pA, 10pA; Packing: Reel; Mounting Technology: Surface Mount; ComponentLink1Description: Manufacturer URL; ComponentLink1URL: http://www.analog.com/en/index.html; ComponentLink2Description: Datasheet; ComponentLink2URL: http://www.analog.com/static/imported-files/data_sheets/ADG819.pdf; ComponentLink3Description: Package Specification; ComponentLink3URL: http://www.analog.com/static/imported-files/data_sheets/ADG819.pdf
footprint ADI-CB-6-1-ADG819 (BGA, 6-Balls, Body 2.18x1.14mm, Pitch 0.5mm)
pins: 1 S2 "Source Terminal. Can be an input or output.", 2 D "Drain Terminal. Can be an input or output.", 3 S1 "Source Terminal. Can be an input or output.", 4 GND (power) "Ground (0 V) Reference.", 5 VDD (power) "Most Positive Power Supply Potential.", 6 IN (in) "Logic Control Input."

## ADG819BRM
designator U?
0.5 Ohm, CMOS, 1.8 to 5.5 V, 2:1 Mux / SPDT Switch, -40 to 125 degC, 8-pin SOP (RM-8), Tube; Manufacturer: Analog Devices; PartNumber: ADG819BRM; # Sw Functions: 1; Id, Is (ON): 10pA, 10pA; Max Pos Supply: 5.5V; Min Pos Supply: 1.8V; Power Dissipation: 5uW; Ron (ohms): 0.5; DatasheetVersion: 02-03-2012-A; PackageVersion: Aug-05; PackageReference: RM-8; PackageDescription: 8-Pin Mini Small Outline Package, Body 3 x 3 mm, Pitch 0.65 mm; Supplier 1: Digi-Key; Supplier Part Number 1: ADG819BRM-ND; Supplier 2: Mouser; Supplier Part Number 2: 584-ADG819BRM; Configuration: SPDT; Is OFF: 10pA, 10pA; Packing: Tube; Mounting Technology: Surface Mount; Code_JEDEC: MO-187-AA; ComponentLink1Description: Manufacturer URL; ComponentLink1URL: http://www.analog.com/en/index.html; ComponentLink2Description: Datasheet; ComponentLink2URL: http://www.analog.com/static/imported-files/data_sheets/ADG819.pdf; ComponentLink3Description: Package Specification; ComponentLink3URL: http://www.analog.com/static/imported-files/packages/PKG_PDF/MSOP%28RM%29/RM_8.pdf
footprint ADI-RM-8_N (SOP, 8-Leads, Body 3x3mm, Pitch 0.65mm, IPC Medium Density)
footprint ADI-RM-8_L (SOP, 8-Leads, Body 3x3mm, Pitch 0.65mm, IPC High Density)
footprint ADI-RM-8_M (SOP, 8-Leads, Body 3x3mm, Pitch 0.65mm, IPC Low Density)
pins: 1 D "Drain Terminal. Can be an input or output.", 2 S1 "Source Terminal. Can be an input or output.", 3 GND (power) "Ground (0 V) Reference.", 4 VDD (power) "Most Positive Power Supply Potential.", 5 NC "No Connect. Do not connect to this pin.", 6 IN (in) "Logic Control Input.", 7 NC "No Connect. Do not connect to this pin.", 8 S2 "Source Terminal. Can be an input or output."

## ADG819BRM-REEL
designator U?
0.5 Ohm, CMOS, 1.8 to 5.5 V, 2:1 Mux / SPDT Switch, -40 to 125 degC, 8-pin SOP (RM-8), Reel; Manufacturer: Analog Devices; PartNumber: ADG819BRM-REEL; # Sw Functions: 1; Id, Is (ON): 10pA, 10pA; Max Pos Supply: 5.5V; Min Pos Supply: 1.8V; Power Dissipation: 5uW; Ron (ohms): 0.5; DatasheetVersion: 02-03-2012-A; PackageVersion: Aug-05; PackageReference: RM-8; PackageDescription: 8-Pin Mini Small Outline Package, Body 3 x 3 mm, Pitch 0.65 mm; Supplier 1: Digi-Key; Supplier Part Number 1: ADG819BRM-REEL-ND; Supplier 2: Mouser; Supplier Part Number 2: 584-ADG819BRM-R; Configuration: SPDT; Is OFF: 10pA, 10pA; Packing: Reel; Mounting Technology: Surface Mount; Code_JEDEC: MO-187-AA; ComponentLink1Description: Manufacturer URL; ComponentLink1URL: http://www.analog.com/en/index.html; ComponentLink2Description: Datasheet; ComponentLink2URL: http://www.analog.com/static/imported-files/data_sheets/ADG819.pdf; ComponentLink3Description: Package Specification; ComponentLink3URL: http://www.analog.com/static/imported-files/packages/PKG_PDF/MSOP%28RM%29/RM_8.pdf
footprint ADI-RM-8_N (SOP, 8-Leads, Body 3x3mm, Pitch 0.65mm, IPC Medium Density)
footprint ADI-RM-8_L (SOP, 8-Leads, Body 3x3mm, Pitch 0.65mm, IPC High Density)
footprint ADI-RM-8_M (SOP, 8-Leads, Body 3x3mm, Pitch 0.65mm, IPC Low Density)
pins: 1 D "Drain Terminal. Can be an input or output.", 2 S1 "Source Terminal. Can be an input or output.", 3 GND (power) "Ground (0 V) Reference.", 4 VDD (power) "Most Positive Power Supply Potential.", 5 NC "No Connect. Do not connect to this pin.", 6 IN (in) "Logic Control Input.", 7 NC "No Connect. Do not connect to this pin.", 8 S2 "Source Terminal. Can be an input or output."

## ADG819BRMZ
designator U?
0.5 Ohm, CMOS, 1.8 to 5.5 V, 2:1 Mux / SPDT Switch, -40 to 125 degC, 8-pin SOP (RM-8), Tube; Manufacturer: Analog Devices; PartNumber: ADG819BRMZ; # Sw Functions: 1; Id, Is (ON): 10pA, 10pA; Max Pos Supply: 5.5V; Min Pos Supply: 1.8V; Power Dissipation: 5uW; Ron (ohms): 0.5; DatasheetVersion: 02-03-2012-A; PackageVersion: Aug-05; PackageReference: RM-8; PackageDescription: 8-Pin Mini Small Outline Package, Body 3 x 3 mm, Pitch 0.65 mm; Supplier 1: Digi-Key; Supplier Part Number 1: ADG819BRMZ-ND; Supplier 2: Farnell; Supplier Part Number 2: 1661038; Supplier 3: Newark; Supplier Part Number 3: 19M8673; Supplier 4: Mouser; Supplier Part Number 4: 584-ADG819BRMZ; Configuration: SPDT; Is OFF: 10pA, 10pA; Packing: Tube; Mounting Technology: Surface Mount; Code_JEDEC: MO-187-AA; ComponentLink1Description: Manufacturer URL; ComponentLink1URL: http://www.analog.com/en/index.html; ComponentLink2Description: Datasheet; ComponentLink2URL: http://www.analog.com/static/imported-files/data_sheets/ADG819.pdf; ComponentLink3Description: Package Specification; ComponentLink3URL: http://www.analog.com/static/imported-files/packages/PKG_PDF/MSOP%28RM%29/RM_8.pdf
footprint ADI-RM-8_N (SOP, 8-Leads, Body 3x3mm, Pitch 0.65mm, IPC Medium Density)
footprint ADI-RM-8_L (SOP, 8-Leads, Body 3x3mm, Pitch 0.65mm, IPC High Density)
footprint ADI-RM-8_M (SOP, 8-Leads, Body 3x3mm, Pitch 0.65mm, IPC Low Density)
pins: 1 D "Drain Terminal. Can be an input or output.", 2 S1 "Source Terminal. Can be an input or output.", 3 GND (power) "Ground (0 V) Reference.", 4 VDD (power) "Most Positive Power Supply Potential.", 5 NC "No Connect. Do not connect to this pin.", 6 IN (in) "Logic Control Input.", 7 NC "No Connect. Do not connect to this pin.", 8 S2 "Source Terminal. Can be an input or output."